# Altium footprint library TSR32450N.PcbLib: 1 footprints
Each footprint in its own frame and in the unit in brackets; x right, y up, seen from the top. Pads: shape width x height; smd on the part's side, far side on the other; paste and mask are expansions set on the pad; w line width, h text height; cw(c..) or ccw(c..) is an arc to the next point about the centre after c.
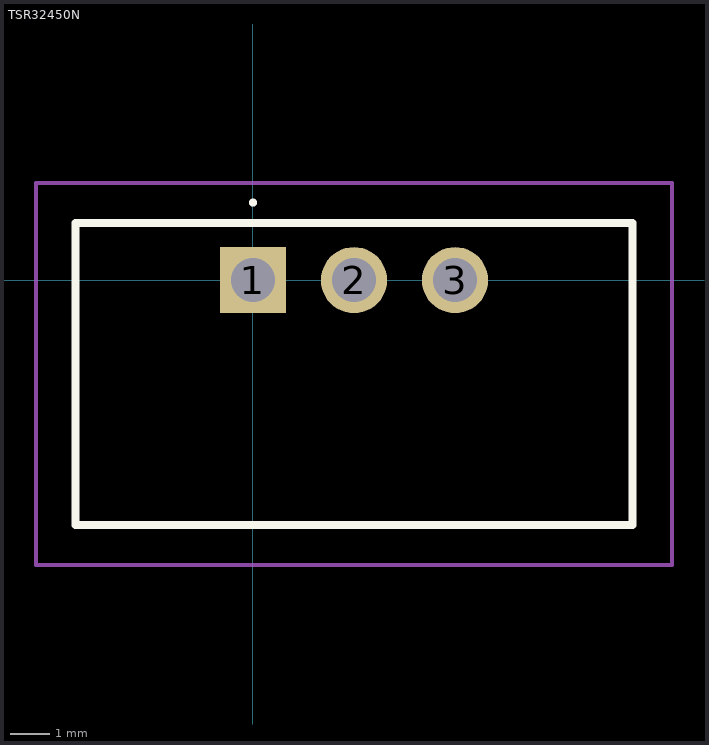
[diagram p0: the footprint, top view; thin cyan lines are the x and y axes]

## TSR32450N [mm]
pads (3):
  rect 1.665x1.665 hole 1.11: 1(0,0)
  round 1.665 hole 1.11: 2(2.54,0) 3(5.08,0)
Top Overlay:
  lines w0.1: 0,1.9 cw(c0,1.95) 0,2 ; 0,1.9 0,1.9 ; 0,1.9 ccw(c0,1.95) 0,2 ; 0,2 0,2
  lines w0.2: -4.46,-6.16 9.54,-6.16 9.54,1.44 -4.46,1.44 -4.46,-6.16
Mechanical 15:
  lines w0.1: -4.46,-6.16 9.54,-6.16 9.54,1.44 -4.46,1.44 -4.46,-6.16
Mechanical 20:
  lines w0.1: -5.46,-7.16 10.54,-7.16 10.54,2.44 -5.46,2.44 -5.46,-7.16